# EAGLE library part MP2144GJ-P (library MP2144GJ-P)
Monolithic Power Systems (MPS), MP2144GJ-P Step-Down Switching Regulator 2A Adjustable, Minimum of 0.6 V, 8-Pin TSOT-23 Source: Datasheet <http://www.monolithicpower.com/DesktopModules/DocumentManage/API/Document/GetDocument?id=522>
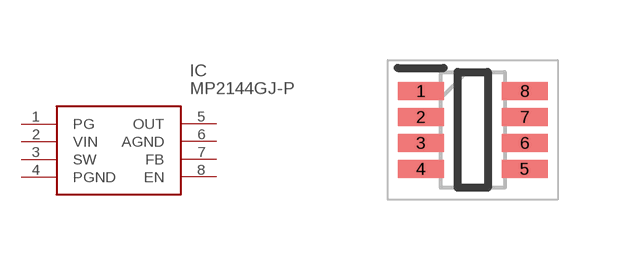
[diagram p0: symbol with the pads of SOT65P280X100-8N; footprint SOT65P280X100-8N]

Designator prefix IC

## MP2144GJ-P (Description: Monolithic Power Systems (MPS), MP2144GJ-P Step-Down Switching Regulator 2A Adjustable, Minimum of 0.6 V, 8-Pin TSOT-23; Height: 1mm; Manufacturer_Name: Monolithic Power Systems (MPS); Manufacturer_Part_Number: MP2144GJ-P; Mouser_Part_Number: 946-MP2144GJP; Mouser_Price-Stock: https://www.mouser.co.uk/ProductDetail/Monolithic-Power-Systems-MPS/MP2144GJ-P?qs=Iq7RKQRjpgoW7cEm9TP09w%3D%3D)  [SOT65P280X100-8N]
1  PG
2  VIN
3  SW
4  PGND
5  OUT
6  AGND
7  FB
8  EN

## Footprint SOT65P280X100-8N (pad centres in mm)
MP2144GJ-P-1
smd 1.15 x 0.45: 1 -1.3,0.975; 2 -1.3,0.325; 3 -1.3,-0.325; 4 -1.3,-0.975; 5 1.3,-0.975; 6 1.3,-0.325; 7 1.3,0.325; 8 1.3,0.975